# Altium schematic symbol library FT230XS-R.SchLib: 1 symbol
Pins are listed as number, name and electrical type; pins without a type are passive.

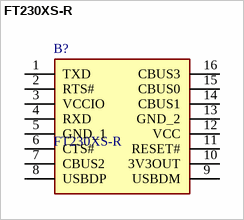
[diagram p0: symbol FT230XS-R]

## FT230XS-R
designator B?
UART Interface RS232, RS422, RS485, SIE, UART 3MBd, 5 V; Manufacturer_Name: FTDI Chip; Geometry.Height: 1.753mm; Mouser Part Number: 895-FT230XS-R; Mouser Price/Stock: https://www.mouser.co.uk/ProductDetail/FTDI/FT230XS-R?qs=Gp1Yz1mis3XyCLeYOseSng%3D%3D; Manufacturer_Part_Number: FT230XS-R; Datasheet Link: http://www.ftdichip.com/Support/Documents/DataSheets/ICs/DS_FT230X.pdf
footprint SOP64P599X175-16N
pins: 1 TXD, 2 RTS#, 3 VCCIO, 4 RXD, 5 GND_1, 6 CTS#, 7 CBUS2, 8 USBDP, 9 USBDM, 10 3V3OUT, 11 RESET#, 12 VCC, 13 GND_2, 14 CBUS1, 15 CBUS0, 16 CBUS3